# EAGLE library part RESISTOR_NETWORK (library FSAE Electric)
2.2k resistor network http://www.mouser.com/ProductDetail/Bourns/4608X-102-222LF/?qs=sGAEpiMZZMvrmc6UYKmaNe%2fOc60lv1s%2f9VX5AITayio%3d
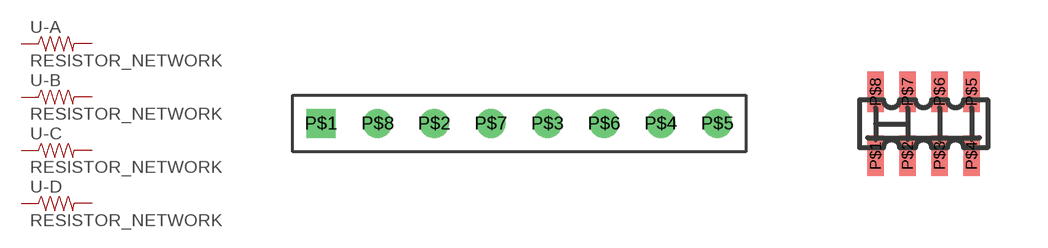
[diagram p88: symbol with the pads of 8X.1; footprints 8X.1, 1206_4X2]

Designator prefix -; gates -A=R -B=R -C=R -D=R

## RESISTOR_NETWORKTHROUGH_HOLE (PARTNO: 4608X-102-222LF)  [8X.1]
P$1  -A:1  pas
P$2  -A:2  pas
P$3  -B:1  pas
P$4  -B:2  pas
P$5  -C:1  pas
P$6  -C:2  pas
P$7  -D:1  pas
P$8  -D:2  pas

## RESISTOR_NETWORK1206_SMD (PARTNO: 652-CAY16-222J4LF; WEBADDRESS: http://www.mouser.com/ProductDetail/Bourns/CAY16-222J4LF/?qs=sGAEpiMZZMvrmc6UYKmaNUApqJ%252b%2fEZrJ%2fpdW56SM27Q%3d)  [1206_4X2]
P$1  -A:1  pas
P$2  -B:1  pas
P$3  -C:1  pas
P$4  -D:1  pas
P$5  -D:2  pas
P$6  -C:2  pas
P$7  -B:2  pas
P$8  -A:2  pas

## Footprint 8X.1 (pad centres in mm)
drill 0.8 square: P$1 0,0
drill 0.8: P$2 5.08,0; P$3 10.16,0; P$4 15.24,0; P$5 17.78,0; P$6 12.7,0; P$7 7.62,0; P$8 2.54,0

## Footprint 1206_4X2 (pad centres in mm)
smd 0.406 x 1: P$1 -1.2,-0.8; P$2 -0.4,-0.8; P$3 0.4,-0.8; P$4 1.2,-0.8; P$5 1.2,0.8; P$6 0.4,0.8; P$7 -0.4,0.8; P$8 -1.2,0.8